# Altium schematic symbol library Jump.SchLib: 3 symbols
Pins are listed as number, name and electrical type; pins without a type are passive.

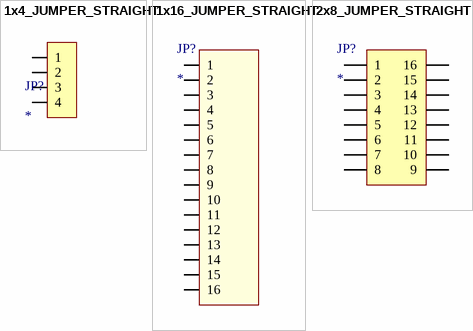
[diagram p0: symbols 1x4_JUMPER_STRAIGHT to 2x8_JUMPER_STRAIGHT]

## 1x4_JUMPER_STRAIGHT
designator JP?
footprint JP 1x4 CT
pins: 1, 2, 3, 4

## 1x16_JUMPER_STRAIGHT
designator JP?
footprint JP 1x16 CT
footprint JP 1x16 CT
pins: 1, 2, 3, 4, 5, 6, 7, 8, 9, 10, 11, 12, 13, 14, 15, 16

## 2x8_JUMPER_STRAIGHT
designator JP?
footprint JP 2X8 DT (16 pins, dual pin, straight, gold plating)
pins: 1, 2, 3, 4, 5, 6, 7, 8, 9, 10, 11, 12, 13, 14, 15, 16